# Altium integrated library Zilog Peripheral Graphics Display Controller.IntLib: 4 symbols
Pins are listed as number, name and electrical type; pins without a type are passive.

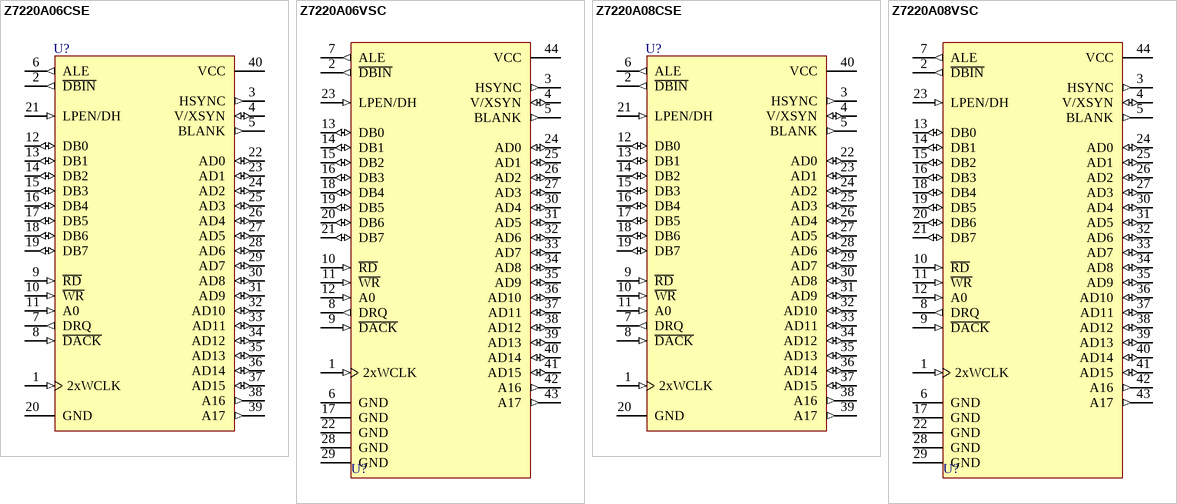
[diagram p0: symbols Z7220A06CSE to Z7220A08VSC]

## Z7220A06CSE
designator U?
High-Performance Graphics Display Controller; Published: 15-Apr-2002; LatestRevisionDate: 04-Mar-2005; LatestRevisionNote: Stylized 3D Model Added.; DatasheetVersion: Oct-1988; PackageVersion: 2001; PackageReference: CDIP40; Publisher: Altium Limited; PackageDescription: DIP; 40 Leads; Row Spacing 15.24 mm; Pitch 2.54 mm; ComponentLink1Description: Manufacturer Link; ComponentLink1URL: http://www.zilog.com/
footprint CDIP40 (DIP; 40 Leads; Row Spacing 15.24 mm; Pitch 2.54 mm)
3D model CDIP40 (DIP; 40 Leads; Row Spacing 15.24 mm; Pitch 2.54 mm)
pins: 1 2xWCLK (in), 2 ~{DBIN} (out), 3 HSYNC (out), 4 V/XSYN (io), 5 BLANK (out), 6 ALE (out), 7 DRQ (out), 8 ~{DACK} (in), 9 ~{RD} (in), 10 ~{WR} (in), 11 A0 (in), 12 DB0 (io), 13 DB1 (io), 14 DB2 (io), 15 DB3 (io), 16 DB4 (io), 17 DB5 (io), 18 DB6 (io), 19 DB7 (io), 20 GND (power), 21 LPEN/DH (in), 22 AD0 (io), 23 AD1 (io), 24 AD2 (io), 25 AD3 (io), 26 AD4 (io), 27 AD5 (io), 28 AD6 (io), 29 AD7 (io), 30 AD8 (io), 31 AD9 (io), 32 AD10 (io), 33 AD11 (io), 34 AD12 (io), 35 AD13 (io), 36 AD14 (io), 37 AD15 (io), 38 A16 (out), 39 A17 (out), 40 VCC (power)

## Z7220A06VSC
designator U?
High-Performance Graphics Display Controller; Published: 15-Apr-2002; LatestRevisionDate: 13-Apr-2006; LatestRevisionNote: IPC-7351 Footprint Added.; DatasheetVersion: Oct-1988; PackageReference: PCC44; Publisher: Altium Limited; PackageDescription: 44-Pin Leaded Chip Carrier 1.27 mm Pitch; Code_IPC: PLCC-44; ComponentLink1Description: Manufacturer Link; ComponentLink1URL: http://www.zilog.com/
footprint PCC44_N (Leaded Chip Carrier, 44-Leads, Body 16.6x16.6mm, Pitch 1.27mm, IPC Medium Density)
footprint PCC44_L (Leaded Chip Carrier, 44-Leads, Body 16.6x16.6mm, Pitch 1.27mm, IPC High Density)
footprint PCC44_M (Leaded Chip Carrier, 44-Leads, Body 16.6x16.6mm, Pitch 1.27mm, IPC Low Density)
3D model Z7220A-PCC44 (44-Pin Leaded Chip Carrier 1.27 mm Pitch)
pins: 1 2xWCLK (in), 2 ~{DBIN} (out), 3 HSYNC (out), 4 V/XSYN (io), 5 BLANK (out), 6 GND (power), 7 ALE (out), 8 DRQ (out), 9 ~{DACK} (in), 10 ~{RD} (in), 11 ~{WR} (in), 12 A0 (in), 13 DB0 (io), 14 DB1 (io), 15 DB2 (io), 16 DB3 (io), 17 GND (power), 18 DB4 (io), 19 DB5 (io), 20 DB6 (io), 21 DB7 (io), 22 GND (power), 23 LPEN/DH (in), 24 AD0 (io), 25 AD1 (io), 26 AD2 (io), 27 AD3 (io), 28 GND (power), 29 GND (power), 30 AD4 (io), 31 AD5 (io), 32 AD6 (io), 33 AD7 (io), 34 AD8 (io), 35 AD9 (io), 36 AD10 (io), 37 AD11 (io), 38 AD12 (io), 39 AD13 (io), 40 AD14 (io), 41 AD15 (io), 42 A16 (out), 43 A17 (out), 44 VCC (power)

## Z7220A08CSE
designator U?
High-Performance Graphics Display Controller; Published: 15-Apr-2002; LatestRevisionDate: 04-Mar-2005; LatestRevisionNote: Stylized 3D Model Added.; DatasheetVersion: Oct-1988; PackageVersion: 2001; PackageReference: CDIP40; Publisher: Altium Limited; PackageDescription: DIP; 40 Leads; Row Spacing 15.24 mm; Pitch 2.54 mm; ComponentLink1Description: Manufacturer Link; ComponentLink1URL: http://www.zilog.com/
footprint CDIP40 (DIP; 40 Leads; Row Spacing 15.24 mm; Pitch 2.54 mm)
3D model CDIP40 (DIP; 40 Leads; Row Spacing 15.24 mm; Pitch 2.54 mm)
pins: 1 2xWCLK (in), 2 ~{DBIN} (out), 3 HSYNC (out), 4 V/XSYN (io), 5 BLANK (out), 6 ALE (out), 7 DRQ (out), 8 ~{DACK} (in), 9 ~{RD} (in), 10 ~{WR} (in), 11 A0 (in), 12 DB0 (io), 13 DB1 (io), 14 DB2 (io), 15 DB3 (io), 16 DB4 (io), 17 DB5 (io), 18 DB6 (io), 19 DB7 (io), 20 GND (power), 21 LPEN/DH (in), 22 AD0 (io), 23 AD1 (io), 24 AD2 (io), 25 AD3 (io), 26 AD4 (io), 27 AD5 (io), 28 AD6 (io), 29 AD7 (io), 30 AD8 (io), 31 AD9 (io), 32 AD10 (io), 33 AD11 (io), 34 AD12 (io), 35 AD13 (io), 36 AD14 (io), 37 AD15 (io), 38 A16 (out), 39 A17 (out), 40 VCC (power)

## Z7220A08VSC
designator U?
High-Performance Graphics Display Controller; Published: 15-Apr-2002; LatestRevisionDate: 13-Apr-2006; LatestRevisionNote: IPC-7351 Footprint Added.; DatasheetVersion: Oct-1988; PackageReference: PCC44; Publisher: Altium Limited; PackageDescription: 44-Pin Leaded Chip Carrier 1.27 mm Pitch; Code_IPC: PLCC-44; ComponentLink1Description: Manufacturer Link; ComponentLink1URL: http://www.zilog.com/
footprint PCC44_N (Leaded Chip Carrier, 44-Leads, Body 16.6x16.6mm, Pitch 1.27mm, IPC Medium Density)
footprint PCC44_L (Leaded Chip Carrier, 44-Leads, Body 16.6x16.6mm, Pitch 1.27mm, IPC High Density)
footprint PCC44_M (Leaded Chip Carrier, 44-Leads, Body 16.6x16.6mm, Pitch 1.27mm, IPC Low Density)
3D model Z7220A-PCC44 (44-Pin Leaded Chip Carrier 1.27 mm Pitch)
pins: 1 2xWCLK (in), 2 ~{DBIN} (out), 3 HSYNC (out), 4 V/XSYN (io), 5 BLANK (out), 6 GND (power), 7 ALE (out), 8 DRQ (out), 9 ~{DACK} (in), 10 ~{RD} (in), 11 ~{WR} (in), 12 A0 (in), 13 DB0 (io), 14 DB1 (io), 15 DB2 (io), 16 DB3 (io), 17 GND (power), 18 DB4 (io), 19 DB5 (io), 20 DB6 (io), 21 DB7 (io), 22 GND (power), 23 LPEN/DH (in), 24 AD0 (io), 25 AD1 (io), 26 AD2 (io), 27 AD3 (io), 28 GND (power), 29 GND (power), 30 AD4 (io), 31 AD5 (io), 32 AD6 (io), 33 AD7 (io), 34 AD8 (io), 35 AD9 (io), 36 AD10 (io), 37 AD11 (io), 38 AD12 (io), 39 AD13 (io), 40 AD14 (io), 41 AD15 (io), 42 A16 (out), 43 A17 (out), 44 VCC (power)